# Altium footprint library 527450433.PcbLib: 1 footprints
Each footprint in its own frame and in the unit in brackets; x right, y up, seen from the top. Pads: shape width x height; smd on the part's side, far side on the other; paste and mask are expansions set on the pad; w line width, h text height; cw(c..) or ccw(c..) is an arc to the next point about the centre after c.
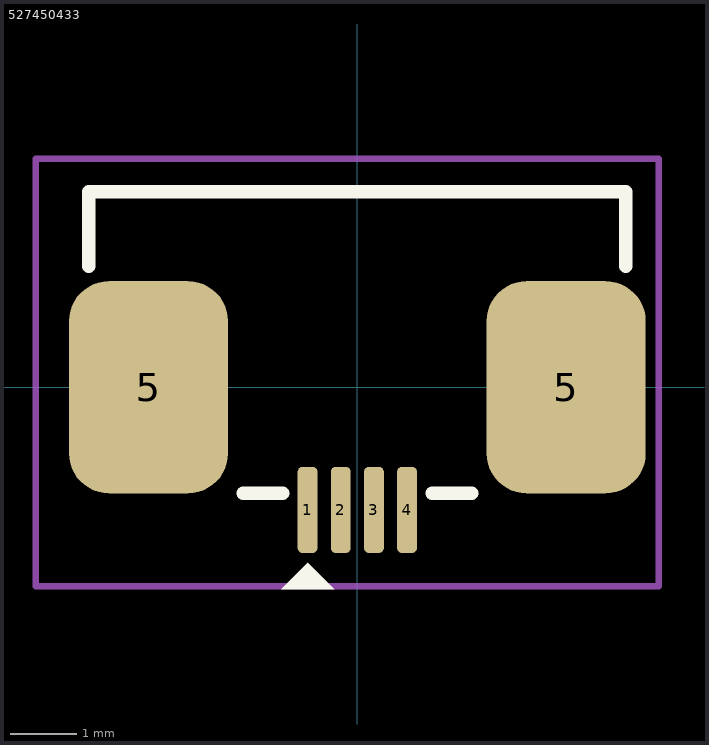
[diagram p0: the footprint, top view; thin cyan lines are the x and y axes]

## 527450433 [mm]
pads (6):
  rrect50% 0.3x1.3 smd: 1(-0.75,-1.85) 2(-0.25,-1.85) 3(0.25,-1.85) 4(0.75,-1.85)
  rrect50% 2.4x3.2 smd: 5(-3.15,0) 5(3.15,0)
Top Overlay:
  region: -0.35,-3.05 -1.15,-3.05 -0.75,-2.65
  lines w0.2: -4.05,1.825 -4.05,2.95 4.05,2.95 4.05,1.825 ; -1.725,-1.6 -1.125,-1.6 ; 1.125,-1.6 1.725,-1.6
Top Courtyard:
  lines w0.1: -4.85,-3 4.55,-3 4.55,3.45 -4.85,3.45 -4.85,-3
3D body "527450433.stp": height 2, standoff 0, extent -4.05,-2.05 4.05,2.95